# Altium integrated library Linear Technology PMIC-Switching Reg LTC1174-LTC3901.IntLib: 2647 symbols (part 229 of 310)
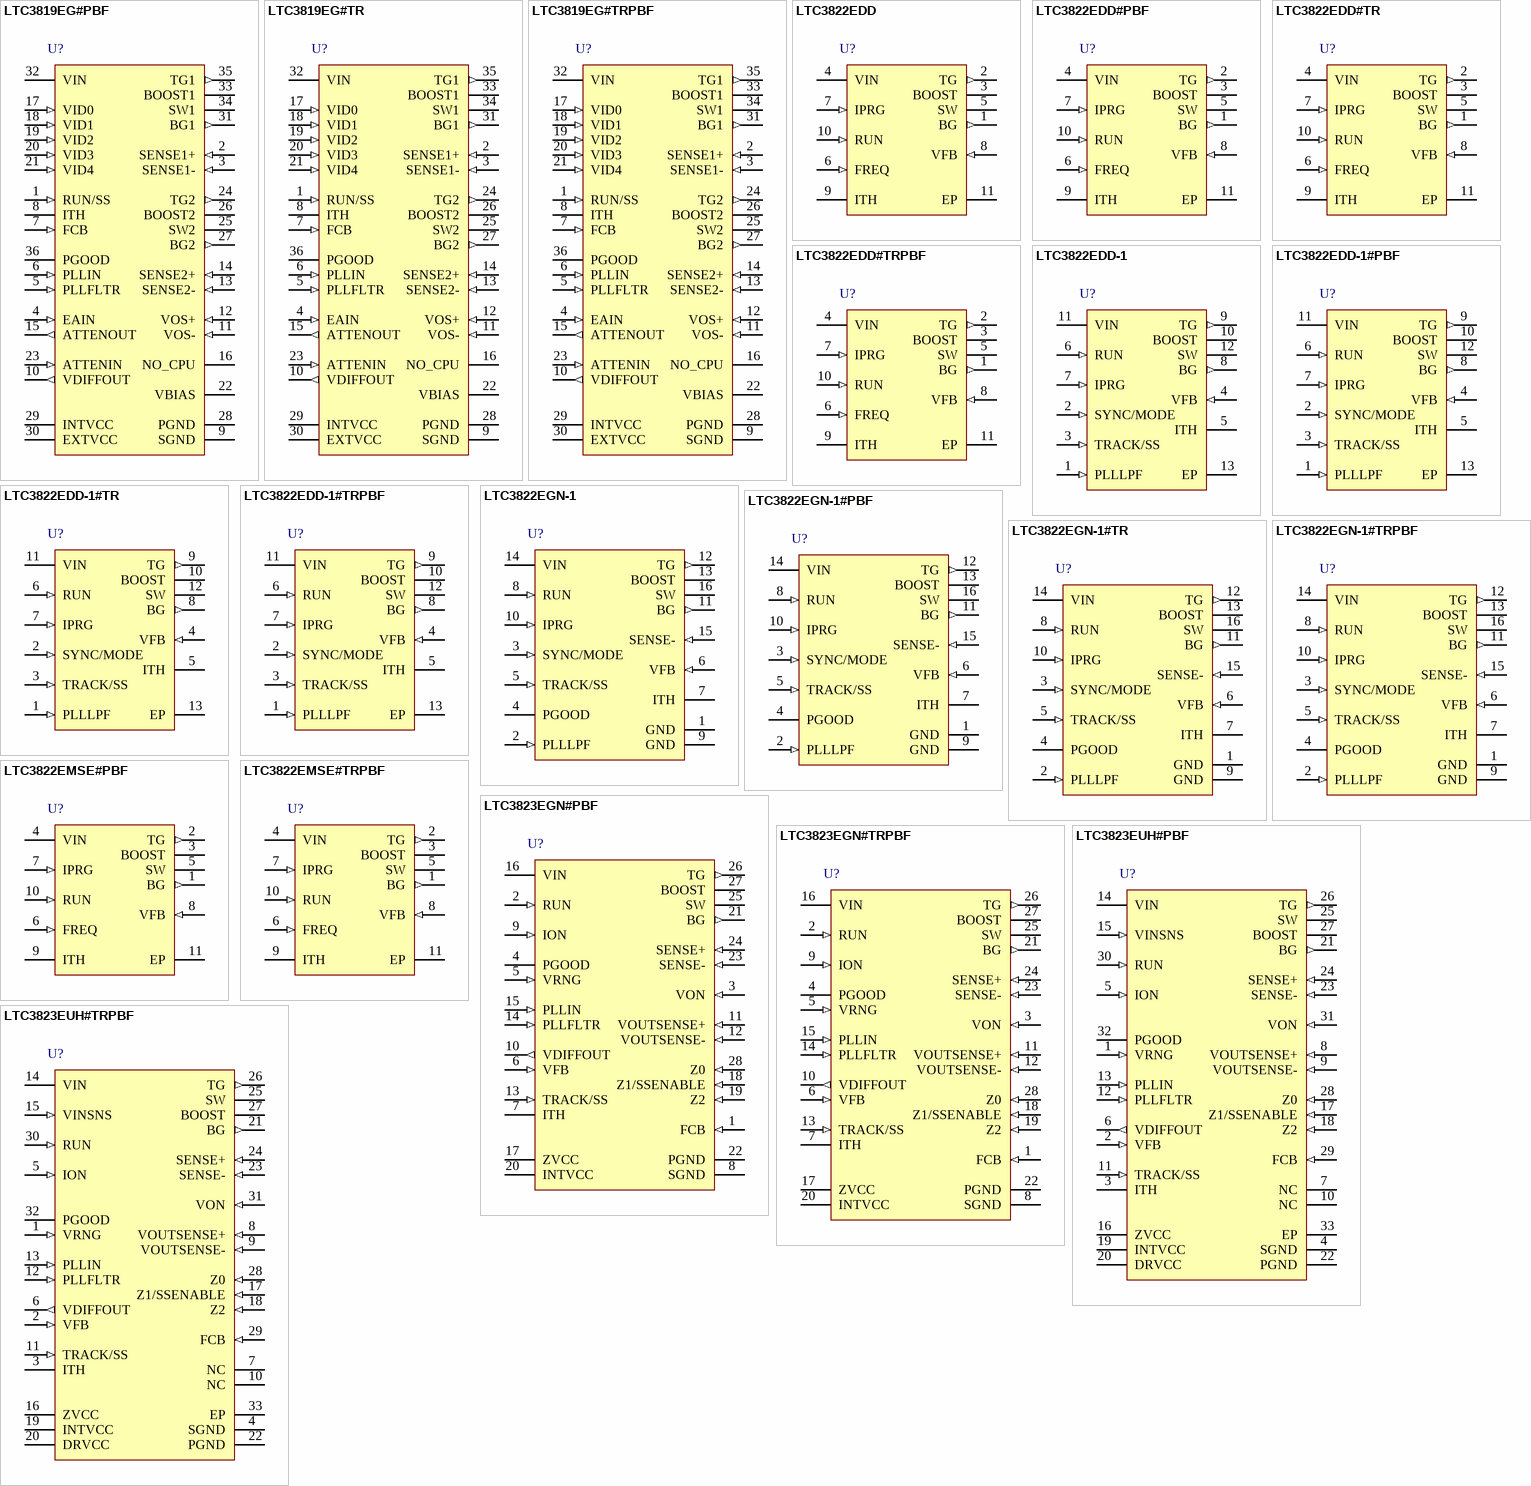
[diagram p250: symbols LTC3819EG#PBF to LTC3823EUH#TRPBF]

## LTC3822EMSE#TRPBF
designator U?
No Rsense, Low Input Voltage, Synchronous Step-Down DC/DC Controller, 10-pin SOP (MSE-10-EDP), -40 to 85 degC, Pb-Free, Tape and Reel; Manufacturer: Linear Technology; PartNumber: LTC3822EMSE#TRPBF; Number of Outputs: 1; PackageReference: MSE-10; PackageDescription: 10-Pin Plastic MSOP, Exposed Die Pad, Body 3 x 3 mm, Pitch 0.5 mm; Supplier 1: Digi-Key; Supplier Part Number 1: LTC3822EMSE#TRPBF-ND; RoHS: TRUE
footprint LT-MSE-10-EDP_N (SOP, 10-Leads, Body 3.1x3.1mm, Pitch 0.5mm, Thermal Pad 1.88x1.68mm, IPC Medium Density)
footprint LT-MSE-10-EDP_L (SOP, 10-Leads, Body 3.1x3.1mm, Pitch 0.5mm, Thermal Pad 1.88x1.68mm, IPC High Density)
footprint LT-MSE-10-EDP_M (SOP, 10-Leads, Body 3.1x3.1mm, Pitch 0.5mm, Thermal Pad 1.88x1.68mm, IPC Low Density)
pins: 1 BG (out) "Bottom Gate Driver Output. This pin drives the gate of the external bottom MOSFET. This pin has an output swing from GND to BOOST.", 2 TG (out) "Top Gate Driver Output. This pin drives the gate of the external topside MOSFET. This pin has an output swing from GND to BOOST.", 3 BOOST "Positive Supply Pin for the Gate Driver Circuitry. A bootstrapped capacitor, charged through an external Schottky diode from VIN, is connected between the BOOST and SW pins. Voltage swing at the BOOST pin is from VIN to 2VIN.(See Datasheet)", 4 VIN (power) "This pin powers the control circuitry and serves as the positive input to the differential current comparator. Pin 4 must not be locally decoupled with a capacitor as it is also the positive terminal for current sense.", 5 SW "Switch Node Connection to Inductor. This pin is also the negative input to the differential current comparator and an input to the reverse current comparator. Normally this pin is connected to the source of the external (See Datasheet)", 6 FREQ (in) "This pin serves as the frequency select input. Tying this pin to GND selects 300kHz operation; tying this pin to VIN selects 750kHz operation. Floating this pin selects 550kHz operation.", 7 IPRG (in) "Selects maximum peak sense voltage between the VIN and SW pins (i.e., the maximum allowed drop across the external top-side MOSFET). Tie to VIN, GND or float to select 200mV, 82mV or 120mV respectively.", 8 VFB (in) "Feedback Pin. This pin receives the remotely sensed feedback voltage from an external resistor divider across the output.", 9 ITH "Current Threshold and Error Amplifier Compensation Point. Nominal operating range on this pin is from 0.7V to 2V. The voltage on this pin determines the threshold of the main current comparator.", 10 RUN (in) "Run Control Input. Forcing this pin below 1.1V shuts down the chip. Driving this pin to VIN or releasing this pin enables the chip to start-up with the internal soft-start", 11 EP (power) "Exposed Pad. The exposed pad is ground and must be soldered to the PCB ground for electrical contact and optimal thermal performance."

## LTC3823EGN#PBF
designator U?
Fast No Rsense Step-Down Synchronous Controller with Differential Output Sensing, Tracking and PLL, 28-pin SOP (GN-28), -40 to 85 degC, Pb-Free; Manufacturer: Linear Technology; PartNumber: LTC3823EGN#PBF; Number of Outputs: 1; PackageReference: GN-28; PackageDescription: 28-Pin Plastic SSOP, Body 9.9 x 3.9 mm, Pitch 0.635 mm; Supplier 1: Digi-Key; Supplier Part Number 1: LTC3823EGN#PBF-ND; RoHS: TRUE
footprint LT-GN-28_N (SOP, 28-Leads, Body 9.98x3.98mm, Pitch 0.635mm, IPC Medium Density)
footprint LT-GN-28_L (SOP, 28-Leads, Body 9.98x3.98mm, Pitch 0.635mm, IPC High Density)
footprint LT-GN-28_M (SOP, 28-Leads, Body 9.98x3.98mm, Pitch 0.635mm, IPC Low Density)
pins: 1 FCB (in) "Forced Continuous Input. Connect this pin to SGND to forced continuous synchronization operation at low load, to INTVCC to enable discontinuous mode operation at low load, or to a resistive divider from a secondary output (See Datasheet)", 2 RUN (in) "Run Control Input. A voltage above 1.5V turns on the IC. Forcing this pin below 1.5V shuts down the device.", 3 VON (in) "On-Time Input. Connecting this pin to the output voltage makes the on-time proportional to VOUT. The comparator input defaults to 0.6V when the pin is grounded and defaults to 4.8V when the pin is tied to INTVCC.", 4 PGOOD (oc) "Power Good Output. Open-drain logic that is pulled to ground when the output voltage is not within +/-11% of the regulation point after the internal 20us power bad mask timer expires.", 5 VRNG (in) "Sense Voltage Range Input. The voltage at this pin is ten times the nominal sense voltage at maximum output current and can be set from 0.5V to 2V by a resistive divider from INTVCC. The nominal sense voltage defaults to (See Datasheet)", 6 VFB (in) "Error Ampli?er Feedback Input. This pin connects the error ampli?er input to an external resistive divider from VOUT.", 7 ITH "Current Control Threshold and Error Ampli?er Compensation Point. The current comparator threshold increases with this control voltage. The voltage ranges from 0V to 2.4V with 0.75V corresponding to zero sense voltage (zer(See Datasheet)", 8 SGND (power) "Signal Ground. All small-signal components and compensation components should connect to this ground, which in turn, connects to PGND at one point.", 9 ION (in) "On-Time Current Input. Tie a resistor from this pin to ground to set the one-shot timer current and thereby, set the switching frequency.", 10 VDIFFOUT (out) "Output of Remote Sensing Differential Amplifier. Connect this to VFB directly or through a resistive divider.", 11 VOUTSENSE+ (in) "This is the positive sense pin for the remote sense differential amplifier. Connect this pin to the positive terminal of the output load capacitor", 12 VOUTSENSE- (in) "This is the negative sense pin for the remote sense differential amplifier. Connect this pin to the negative terminal of the output load capacitor.", 13 TRACK/SS (in) "Output Voltage Tracking and Soft-Start Input. When the IC is configured to be the master of two outputs, a capacitor to ground at this pin sets the ramp rate for the output voltage. When the IC is configured to be (See Datasheet)", 14 PLLFLTR (in) "The phase-locked loop's lowpass filter is tied to this pin. The voltage at this pin defaults to 1.180V when the IC is not synchronized with an external clock at the PLLIN pin.", 15 PLLIN (in) "External Synchronization Input to Phase Detector. This pin is internally terminated to SGND with a 50k resistor.", 16 VIN (power) "Main Input Supply. Decouple this to PGND with a capacitor (0.1uF to 1uF).", 17 ZVCC (power) "Post-Package Zener Trim Supply. Under normal conditions this pin should always be connected to INTVCC.", 18 Z1/SSENABLE (in) "Post-Package Zener Trim Control. This pin is a multifunctional pin used in production for post-package trimming and tracking. Ground this pin under normal soft-start operation. Connecting this pin to INTVCC will turn off the (See Datasheet)", 19 Z2 (in) "Post-Package Zener Trim Control. This pin is used in production for post-package trimming. Ground this pin under normal operation.", 20 INTVCC (power) "Internal 5V Regulated Output. The control circuits are powered from this voltage. Decouple this pin to PGND with a minimum of 4.7uF low ESR tantalum or ceramic capacitor.", 21 BG (out) "Gate Driver Output. This pin drives the gate of the bottom N-channel MOSFET between ground and INTVCC.", 22 PGND (power) "Power Ground. Connect this pin closely to the source of the bottom N-channel MOSFET, the (-) terminal of CVCC and CIN", 23 SENSE- (in) "Current Sense Comparator Input. The negative input to the current comparator is used to accurately Kelvin sense the bottom side of the sense resistor or MOSFET.", 24 SENSE+ (in) "Current Sense Comparator Input. The positive input to the current comparator is normally connected to the SW node unless using a sense resistor.", 25 SW "Switch Node. The (-) terminal of the bootstrap capacitor, CB, connects here. This pin swings from a diode drop below ground up to VIN.", 26 TG (out) "Top Gate Drive Output. This pin drives the top N-channel MOSFET with a voltage swing equal to INTVCC, superimposed on the switch node voltage SW.", 27 BOOST "Boosted Floating Driver Supply. The (+) terminal of the bootstrap capacitor, CB, connects here. This pin swings from a diode voltage drop below INTVCC up to VIN + INTVCC.", 28 Z0 (in) "Dead Time Control Input. Applying a DC voltage at this pin will vary the dead time between TG low and BG high transition. Do not force a voltage higher than INTVCC on this pin."

## LTC3823EGN#TRPBF
designator U?
Fast No Rsense Step-Down Synchronous Controller with Differential Output Sensing, Tracking and PLL, 28-pin SOP (GN-28), -40 to 85 degC, Pb-Free, Tape and Reel; Manufacturer: Linear Technology; PartNumber: LTC3823EGN#TRPBF; Number of Outputs: 1; PackageReference: GN-28; PackageDescription: 28-Pin Plastic SSOP, Body 9.9 x 3.9 mm, Pitch 0.635 mm; Supplier 1: Digi-Key; Supplier Part Number 1: LTC3823EGN#TRPBF-ND; RoHS: TRUE
footprint LT-GN-28_N (SOP, 28-Leads, Body 9.98x3.98mm, Pitch 0.635mm, IPC Medium Density)
footprint LT-GN-28_L (SOP, 28-Leads, Body 9.98x3.98mm, Pitch 0.635mm, IPC High Density)
footprint LT-GN-28_M (SOP, 28-Leads, Body 9.98x3.98mm, Pitch 0.635mm, IPC Low Density)
pins: 1 FCB (in) "Forced Continuous Input. Connect this pin to SGND to forced continuous synchronization operation at low load, to INTVCC to enable discontinuous mode operation at low load, or to a resistive divider from a secondary output (See Datasheet)", 2 RUN (in) "Run Control Input. A voltage above 1.5V turns on the IC. Forcing this pin below 1.5V shuts down the device.", 3 VON (in) "On-Time Input. Connecting this pin to the output voltage makes the on-time proportional to VOUT. The comparator input defaults to 0.6V when the pin is grounded and defaults to 4.8V when the pin is tied to INTVCC.", 4 PGOOD (oc) "Power Good Output. Open-drain logic that is pulled to ground when the output voltage is not within +/-11% of the regulation point after the internal 20us power bad mask timer expires.", 5 VRNG (in) "Sense Voltage Range Input. The voltage at this pin is ten times the nominal sense voltage at maximum output current and can be set from 0.5V to 2V by a resistive divider from INTVCC. The nominal sense voltage defaults to (See Datasheet)", 6 VFB (in) "Error Ampli?er Feedback Input. This pin connects the error ampli?er input to an external resistive divider from VOUT.", 7 ITH "Current Control Threshold and Error Ampli?er Compensation Point. The current comparator threshold increases with this control voltage. The voltage ranges from 0V to 2.4V with 0.75V corresponding to zero sense voltage (zer(See Datasheet)", 8 SGND (power) "Signal Ground. All small-signal components and compensation components should connect to this ground, which in turn, connects to PGND at one point.", 9 ION (in) "On-Time Current Input. Tie a resistor from this pin to ground to set the one-shot timer current and thereby, set the switching frequency.", 10 VDIFFOUT (out) "Output of Remote Sensing Differential Amplifier. Connect this to VFB directly or through a resistive divider.", 11 VOUTSENSE+ (in) "This is the positive sense pin for the remote sense differential amplifier. Connect this pin to the positive terminal of the output load capacitor", 12 VOUTSENSE- (in) "This is the negative sense pin for the remote sense differential amplifier. Connect this pin to the negative terminal of the output load capacitor.", 13 TRACK/SS (in) "Output Voltage Tracking and Soft-Start Input. When the IC is configured to be the master of two outputs, a capacitor to ground at this pin sets the ramp rate for the output voltage. When the IC is configured to be (See Datasheet)", 14 PLLFLTR (in) "The phase-locked loop's lowpass filter is tied to this pin. The voltage at this pin defaults to 1.180V when the IC is not synchronized with an external clock at the PLLIN pin.", 15 PLLIN (in) "External Synchronization Input to Phase Detector. This pin is internally terminated to SGND with a 50k resistor.", 16 VIN (power) "Main Input Supply. Decouple this to PGND with a capacitor (0.1uF to 1uF).", 17 ZVCC (power) "Post-Package Zener Trim Supply. Under normal conditions this pin should always be connected to INTVCC.", 18 Z1/SSENABLE (in) "Post-Package Zener Trim Control. This pin is a multifunctional pin used in production for post-package trimming and tracking. Ground this pin under normal soft-start operation. Connecting this pin to INTVCC will turn off the (See Datasheet)", 19 Z2 (in) "Post-Package Zener Trim Control. This pin is used in production for post-package trimming. Ground this pin under normal operation.", 20 INTVCC (power) "Internal 5V Regulated Output. The control circuits are powered from this voltage. Decouple this pin to PGND with a minimum of 4.7uF low ESR tantalum or ceramic capacitor.", 21 BG (out) "Gate Driver Output. This pin drives the gate of the bottom N-channel MOSFET between ground and INTVCC.", 22 PGND (power) "Power Ground. Connect this pin closely to the source of the bottom N-channel MOSFET, the (-) terminal of CVCC and CIN", 23 SENSE- (in) "Current Sense Comparator Input. The negative input to the current comparator is used to accurately Kelvin sense the bottom side of the sense resistor or MOSFET.", 24 SENSE+ (in) "Current Sense Comparator Input. The positive input to the current comparator is normally connected to the SW node unless using a sense resistor.", 25 SW "Switch Node. The (-) terminal of the bootstrap capacitor, CB, connects here. This pin swings from a diode drop below ground up to VIN.", 26 TG (out) "Top Gate Drive Output. This pin drives the top N-channel MOSFET with a voltage swing equal to INTVCC, superimposed on the switch node voltage SW.", 27 BOOST "Boosted Floating Driver Supply. The (+) terminal of the bootstrap capacitor, CB, connects here. This pin swings from a diode voltage drop below INTVCC up to VIN + INTVCC.", 28 Z0 (in) "Dead Time Control Input. Applying a DC voltage at this pin will vary the dead time between TG low and BG high transition. Do not force a voltage higher than INTVCC on this pin."

## LTC3823EUH#PBF
designator U?
Fast No Rsense Step-Down Synchronous Controller with Differential Output Sensing, Tracking and PLL, 32-pin QFN (UH-32), -40 to 85 degC, Pb-Free; Manufacturer: Linear Technology; PartNumber: LTC3823EUH#PBF; Number of Outputs: 1; PackageReference: UH-32; PackageDescription: 32-Pin Plastic QFN, Body 5 x 5 mm, Pitch 0.5 mm; Supplier 1: Digi-Key; Supplier Part Number 1: LTC3823EUH#PBF-ND; RoHS: TRUE; Code_JEDEC: MO-220
footprint LT-UH-32_N (QFN, 32-Leads, Body 5.1x5.1mm, Pitch 0.5mm, Thermal Pad 3.45X3.45mm, IPC Medium Density)
footprint LT-UH-32_L (QFN, 32-Leads, Body 5.1x5.1mm, Pitch 0.5mm, Thermal Pad 3.45X3.45mm, IPC High Density)
footprint LT-UH-32_M (QFN, 32-Leads, Body 5.1x5.1mm, Pitch 0.5mm, Thermal Pad 3.45X3.45mm, IPC Low Density)
pins: 1 VRNG (in) "Sense Voltage Range Input. The voltage at this pin is ten times the nominal sense voltage at maximum output current and can be set from 0.5V to 2V by a resistive divider from INTVCC. The nominal sense voltage defaults to (See Datasheet)", 2 VFB (in) "Error Ampli?er Feedback Input. This pin connects the error ampli?er input to an external resistive divider from VOUT.", 3 ITH "Current Control Threshold and Error Ampli?er Compensation Point. The current comparator threshold increases with this control voltage. The voltage ranges from 0V to 2.4V with 0.75V corresponding to zero sense voltage (zer(See Datasheet)", 4 SGND (power) "Signal Ground. All small-signal components and compensation components should connect to this ground, which in turn, connects to PGND at one point.", 5 ION (in) "On-Time Current Input. Tie a resistor from this pin to ground to set the one-shot timer current and thereby, set the switching frequency", 6 VDIFFOUT (out) "Output of Remote Sensing Differential Amplifier. Connect this to VFB directly or through a resistive divider", 7 NC "No Connect", 8 VOUTSENSE+ (in) "This is the positive sense pin for the remote sense differential amplifier. Connect this pin to the positive terminal of the output load capacitor", 9 VOUTSENSE- (in) "This is the negative sense pin for the remote sense differential amplifier. Connect this pin to the negative terminal of the output load capacitor.", 10 NC "No Connect", 11 TRACK/SS (in) "Output Voltage Tracking and Soft-Start Input. When the IC is configured to be the master of two outputs, a capacitor to ground at this pin sets the ramp rate for the output voltage. When the IC is configured to be (See Datasheet)", 12 PLLFLTR (in) "The phase-locked loop's lowpass filter is tied to this pin. The voltage at this pin defaults to 1.180V when the IC is not synchronized with an external clock at the PLLIN pin.", 13 PLLIN (in) "External Synchronization Input to Phase Detector. This pin is internally terminated to SGND with a 50k resistor.", 14 VIN (power) "Main Input Supply. Decouple this to PGND with a capacitor (0.1uF to 1uF).", 15 VINSNS (in) "VIN Voltage Sense Input. Normally this pin is tied to VIN. However, in certain applications when the IC is powered from a separate supply, VINSNS is tied to the upper MOSFET supply to sense the VIN voltage. This pin is (See Datasheet)", 16 ZVCC (power) "Post-Package Zener Trim Supply. Under normal conditions this pin should always be connected to INTVCC.", 17 Z1/SSENABLE (in) "Post-Package Zener Trim Control. This pin is a multifunctional pin used in production for post-package trimming and tracking. Ground this pin under normal soft-start operation. Connecting this pin to INTVCC will turn off the (See Datasheet)", 18 Z2 (in) "Post-Package Zener Trim Control. This pin is used in production for post-package trimming. Ground this pin under normal operation.", 19 INTVCC (power) "Internal 5V Regulated Output. The control circuits are powered from this voltage. Decouple this pin to PGND with a minimum of 4.7uF low ESR tantalum or ceramic capacitor.", 20 DRVCC (power) "Driver Voltage Input. Must be connected to INTVCC externally. Do not exceed 7V at this pin. This pin is co-bonded to INTVCC internally in the GN package.", 21 BG (out) "Gate Driver Output. This pin drives the gate of the bottom N-channel MOSFET between ground and INTVCC.", 22 PGND (power) "Power Ground. Connect this pin closely to the source of the bottom N-channel MOSFET, the (-) terminal of CVCC and CIN.", 23 SENSE- (in) "Current Sense Comparator Input. The negative input to the current comparator is used to accurately Kelvin sense the bottom side of the sense resistor or MOSFET.", 24 SENSE+ (in) "Current Sense Comparator Input. The positive input to the current comparator is normally connected to the SW node unless using a sense resistor.", 25 SW "Switch Node. The (-) terminal of the bootstrap capacitor, CB, connects here. This pin swings from a diode drop below ground up to VIN.", 26 TG (out) "Top Gate Drive Output. This pin drives the top N-channel MOSFET with a voltage swing equal to INTVCC, superimposed on the switch node voltage SW.", 27 BOOST "Boosted Floating Driver Supply. The (+) terminal of the bootstrap capacitor, CB, connects here. This pin swings from a diode voltage drop below INTVCC up to VIN + INTVCC.", 28 Z0 (in) "Dead Time Control Input. Applying a DC voltage at this pin will vary the dead time between TG low and BG high transition. Do not force a voltage higher than INTVCC on this pin.", 29 FCB (in) "Forced Continuous Input. Connect this pin to SGND to forced continuous synchronization operation at low load, to INTVCC to enable discontinuous mode operation at low load, or to a resistive divider from a secondary output (See Datasheet)", 30 RUN (in) "Run Control Input. A voltage above 1.5V turns on the IC. Forcing this pin below 1.5V shuts down the device.", 31 VON (in) "On-Time Input. Connecting this pin to the output voltage makes the on-time proportional to VOUT. The comparator input defaults to 0.6V when the pin is grounded and defaults to 4.8V when the pin is tied to INTVCC.", 32 PGOOD (oc) "Power Good Output. Open-drain logic that is pulled to ground when the output voltage is not within +/-11% of the regulation point after the internal 20us power bad mask timer expires.", 33 EP (power) "he exposed pad is signal ground. It must be soldered to PCB ground for electrical contact and for rated thermal performance."

## LTC3823EUH#TRPBF
designator U?
Fast No Rsense Step-Down Synchronous Controller with Differential Output Sensing, Tracking and PLL, 32-pin QFN (UH-32), -40 to 85 degC, Pb-Free, Tape and Reel; Manufacturer: Linear Technology; PartNumber: LTC3823EUH#TRPBF; Number of Outputs: 1; PackageReference: UH-32; PackageDescription: 32-Pin Plastic QFN, Body 5 x 5 mm, Pitch 0.5 mm; Supplier 1: Digi-Key; Supplier Part Number 1: LTC3823EUH#TRPBF-ND; RoHS: TRUE; Code_JEDEC: MO-220
footprint LT-UH-32_N (QFN, 32-Leads, Body 5.1x5.1mm, Pitch 0.5mm, Thermal Pad 3.45X3.45mm, IPC Medium Density)
footprint LT-UH-32_L (QFN, 32-Leads, Body 5.1x5.1mm, Pitch 0.5mm, Thermal Pad 3.45X3.45mm, IPC High Density)
footprint LT-UH-32_M (QFN, 32-Leads, Body 5.1x5.1mm, Pitch 0.5mm, Thermal Pad 3.45X3.45mm, IPC Low Density)
pins: 1 VRNG (in) "Sense Voltage Range Input. The voltage at this pin is ten times the nominal sense voltage at maximum output current and can be set from 0.5V to 2V by a resistive divider from INTVCC. The nominal sense voltage defaults to (See Datasheet)", 2 VFB (in) "Error Ampli?er Feedback Input. This pin connects the error ampli?er input to an external resistive divider from VOUT.", 3 ITH "Current Control Threshold and Error Ampli?er Compensation Point. The current comparator threshold increases with this control voltage. The voltage ranges from 0V to 2.4V with 0.75V corresponding to zero sense voltage (zer(See Datasheet)", 4 SGND (power) "Signal Ground. All small-signal components and compensation components should connect to this ground, which in turn, connects to PGND at one point.", 5 ION (in) "On-Time Current Input. Tie a resistor from this pin to ground to set the one-shot timer current and thereby, set the switching frequency", 6 VDIFFOUT (out) "Output of Remote Sensing Differential Amplifier. Connect this to VFB directly or through a resistive divider", 7 NC "No Connect", 8 VOUTSENSE+ (in) "This is the positive sense pin for the remote sense differential amplifier. Connect this pin to the positive terminal of the output load capacitor", 9 VOUTSENSE- (in) "This is the negative sense pin for the remote sense differential amplifier. Connect this pin to the negative terminal of the output load capacitor.", 10 NC "No Connect", 11 TRACK/SS (in) "Output Voltage Tracking and Soft-Start Input. When the IC is configured to be the master of two outputs, a capacitor to ground at this pin sets the ramp rate for the output voltage. When the IC is configured to be (See Datasheet)", 12 PLLFLTR (in) "The phase-locked loop's lowpass filter is tied to this pin. The voltage at this pin defaults to 1.180V when the IC is not synchronized with an external clock at the PLLIN pin.", 13 PLLIN (in) "External Synchronization Input to Phase Detector. This pin is internally terminated to SGND with a 50k resistor.", 14 VIN (power) "Main Input Supply. Decouple this to PGND with a capacitor (0.1uF to 1uF).", 15 VINSNS (in) "VIN Voltage Sense Input. Normally this pin is tied to VIN. However, in certain applications when the IC is powered from a separate supply, VINSNS is tied to the upper MOSFET supply to sense the VIN voltage. This pin is (See Datasheet)", 16 ZVCC (power) "Post-Package Zener Trim Supply. Under normal conditions this pin should always be connected to INTVCC.", 17 Z1/SSENABLE (in) "Post-Package Zener Trim Control. This pin is a multifunctional pin used in production for post-package trimming and tracking. Ground this pin under normal soft-start operation. Connecting this pin to INTVCC will turn off the (See Datasheet)", 18 Z2 (in) "Post-Package Zener Trim Control. This pin is used in production for post-package trimming. Ground this pin under normal operation.", 19 INTVCC (power) "Internal 5V Regulated Output. The control circuits are powered from this voltage. Decouple this pin to PGND with a minimum of 4.7uF low ESR tantalum or ceramic capacitor.", 20 DRVCC (power) "Driver Voltage Input. Must be connected to INTVCC externally. Do not exceed 7V at this pin. This pin is co-bonded to INTVCC internally in the GN package.", 21 BG (out) "Gate Driver Output. This pin drives the gate of the bottom N-channel MOSFET between ground and INTVCC.", 22 PGND (power) "Power Ground. Connect this pin closely to the source of the bottom N-channel MOSFET, the (-) terminal of CVCC and CIN.", 23 SENSE- (in) "Current Sense Comparator Input. The negative input to the current comparator is used to accurately Kelvin sense the bottom side of the sense resistor or MOSFET.", 24 SENSE+ (in) "Current Sense Comparator Input. The positive input to the current comparator is normally connected to the SW node unless using a sense resistor.", 25 SW "Switch Node. The (-) terminal of the bootstrap capacitor, CB, connects here. This pin swings from a diode drop below ground up to VIN.", 26 TG (out) "Top Gate Drive Output. This pin drives the top N-channel MOSFET with a voltage swing equal to INTVCC, superimposed on the switch node voltage SW.", 27 BOOST "Boosted Floating Driver Supply. The (+) terminal of the bootstrap capacitor, CB, connects here. This pin swings from a diode voltage drop below INTVCC up to VIN + INTVCC.", 28 Z0 (in) "Dead Time Control Input. Applying a DC voltage at this pin will vary the dead time between TG low and BG high transition. Do not force a voltage higher than INTVCC on this pin.", 29 FCB (in) "Forced Continuous Input. Connect this pin to SGND to forced continuous synchronization operation at low load, to INTVCC to enable discontinuous mode operation at low load, or to a resistive divider from a secondary output (See Datasheet)", 30 RUN (in) "Run Control Input. A voltage above 1.5V turns on the IC. Forcing this pin below 1.5V shuts down the device.", 31 VON (in) "On-Time Input. Connecting this pin to the output voltage makes the on-time proportional to VOUT. The comparator input defaults to 0.6V when the pin is grounded and defaults to 4.8V when the pin is tied to INTVCC.", 32 PGOOD (oc) "Power Good Output. Open-drain logic that is pulled to ground when the output voltage is not within +/-11% of the regulation point after the internal 20us power bad mask timer expires.", 33 EP (power) "he exposed pad is signal ground. It must be soldered to PCB ground for electrical contact and for rated thermal performance."

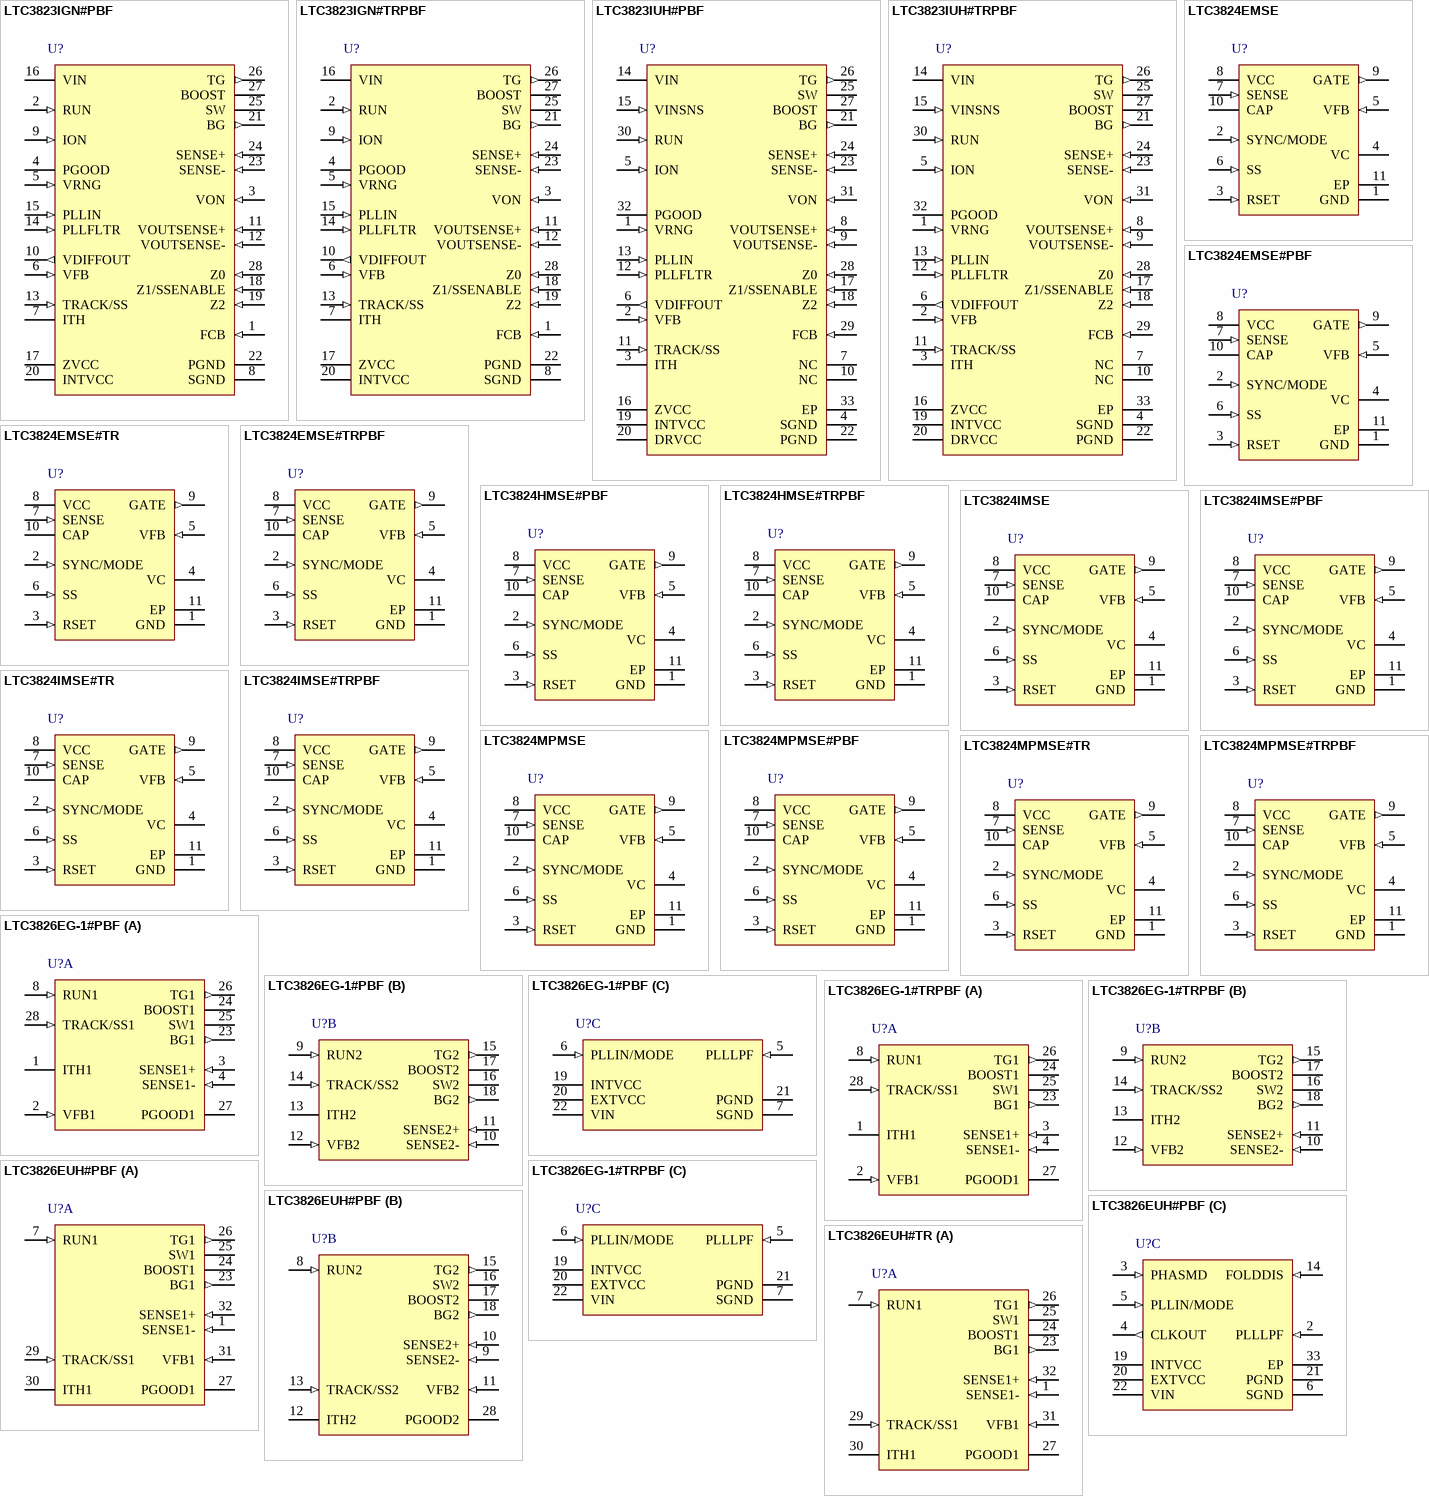
[diagram p81: symbols LTC3823IGN#PBF to LTC3826EUH#TR]

## LTC3823IGN#PBF
designator U?
Fast No Rsense Step-Down Synchronous Controller with Differential Output Sensing, Tracking and PLL, 28-pin SOP (GN-28), -40 to 85 degC, Pb-Free; Manufacturer: Linear Technology; PartNumber: LTC3823IGN#PBF; Number of Outputs: 1; PackageReference: GN-28; PackageDescription: 28-Pin Plastic SSOP, Body 9.9 x 3.9 mm, Pitch 0.635 mm; Supplier 1: Digi-Key; Supplier Part Number 1: LTC3823IGN#PBF-ND; RoHS: TRUE
footprint LT-GN-28_N (SOP, 28-Leads, Body 9.98x3.98mm, Pitch 0.635mm, IPC Medium Density)
footprint LT-GN-28_L (SOP, 28-Leads, Body 9.98x3.98mm, Pitch 0.635mm, IPC High Density)
footprint LT-GN-28_M (SOP, 28-Leads, Body 9.98x3.98mm, Pitch 0.635mm, IPC Low Density)
pins: 1 FCB (in) "Forced Continuous Input. Connect this pin to SGND to forced continuous synchronization operation at low load, to INTVCC to enable discontinuous mode operation at low load, or to a resistive divider from a secondary output (See Datasheet)", 2 RUN (in) "Run Control Input. A voltage above 1.5V turns on the IC. Forcing this pin below 1.5V shuts down the device.", 3 VON (in) "On-Time Input. Connecting this pin to the output voltage makes the on-time proportional to VOUT. The comparator input defaults to 0.6V when the pin is grounded and defaults to 4.8V when the pin is tied to INTVCC.", 4 PGOOD (oc) "Power Good Output. Open-drain logic that is pulled to ground when the output voltage is not within +/-11% of the regulation point after the internal 20us power bad mask timer expires.", 5 VRNG (in) "Sense Voltage Range Input. The voltage at this pin is ten times the nominal sense voltage at maximum output current and can be set from 0.5V to 2V by a resistive divider from INTVCC. The nominal sense voltage defaults to (See Datasheet)", 6 VFB (in) "Error Ampli?er Feedback Input. This pin connects the error ampli?er input to an external resistive divider from VOUT.", 7 ITH "Current Control Threshold and Error Ampli?er Compensation Point. The current comparator threshold increases with this control voltage. The voltage ranges from 0V to 2.4V with 0.75V corresponding to zero sense voltage (zer(See Datasheet)", 8 SGND (power) "Signal Ground. All small-signal components and compensation components should connect to this ground, which in turn, connects to PGND at one point.", 9 ION (in) "On-Time Current Input. Tie a resistor from this pin to ground to set the one-shot timer current and thereby, set the switching frequency.", 10 VDIFFOUT (out) "Output of Remote Sensing Differential Amplifier. Connect this to VFB directly or through a resistive divider.", 11 VOUTSENSE+ (in) "This is the positive sense pin for the remote sense differential amplifier. Connect this pin to the positive terminal of the output load capacitor", 12 VOUTSENSE- (in) "This is the negative sense pin for the remote sense differential amplifier. Connect this pin to the negative terminal of the output load capacitor.", 13 TRACK/SS (in) "Output Voltage Tracking and Soft-Start Input. When the IC is configured to be the master of two outputs, a capacitor to ground at this pin sets the ramp rate for the output voltage. When the IC is configured to be (See Datasheet)", 14 PLLFLTR (in) "The phase-locked loop's lowpass filter is tied to this pin. The voltage at this pin defaults to 1.180V when the IC is not synchronized with an external clock at the PLLIN pin.", 15 PLLIN (in) "External Synchronization Input to Phase Detector. This pin is internally terminated to SGND with a 50k resistor.", 16 VIN (power) "Main Input Supply. Decouple this to PGND with a capacitor (0.1uF to 1uF).", 17 ZVCC (power) "Post-Package Zener Trim Supply. Under normal conditions this pin should always be connected to INTVCC.", 18 Z1/SSENABLE (in) "Post-Package Zener Trim Control. This pin is a multifunctional pin used in production for post-package trimming and tracking. Ground this pin under normal soft-start operation. Connecting this pin to INTVCC will turn off the (See Datasheet)", 19 Z2 (in) "Post-Package Zener Trim Control. This pin is used in production for post-package trimming. Ground this pin under normal operation.", 20 INTVCC (power) "Internal 5V Regulated Output. The control circuits are powered from this voltage. Decouple this pin to PGND with a minimum of 4.7uF low ESR tantalum or ceramic capacitor.", 21 BG (out) "Gate Driver Output. This pin drives the gate of the bottom N-channel MOSFET between ground and INTVCC.", 22 PGND (power) "Power Ground. Connect this pin closely to the source of the bottom N-channel MOSFET, the (-) terminal of CVCC and CIN", 23 SENSE- (in) "Current Sense Comparator Input. The negative input to the current comparator is used to accurately Kelvin sense the bottom side of the sense resistor or MOSFET.", 24 SENSE+ (in) "Current Sense Comparator Input. The positive input to the current comparator is normally connected to the SW node unless using a sense resistor.", 25 SW "Switch Node. The (-) terminal of the bootstrap capacitor, CB, connects here. This pin swings from a diode drop below ground up to VIN.", 26 TG (out) "Top Gate Drive Output. This pin drives the top N-channel MOSFET with a voltage swing equal to INTVCC, superimposed on the switch node voltage SW.", 27 BOOST "Boosted Floating Driver Supply. The (+) terminal of the bootstrap capacitor, CB, connects here. This pin swings from a diode voltage drop below INTVCC up to VIN + INTVCC.", 28 Z0 (in) "Dead Time Control Input. Applying a DC voltage at this pin will vary the dead time between TG low and BG high transition. Do not force a voltage higher than INTVCC on this pin."

## LTC3823IGN#TRPBF
designator U?
Fast No Rsense Step-Down Synchronous Controller with Differential Output Sensing, Tracking and PLL, 28-pin SOP (GN-28), -40 to 85 degC, Pb-Free, Tape and Reel; Manufacturer: Linear Technology; PartNumber: LTC3823IGN#TRPBF; Number of Outputs: 1; PackageReference: GN-28; PackageDescription: 28-Pin Plastic SSOP, Body 9.9 x 3.9 mm, Pitch 0.635 mm; Supplier 1: Digi-Key; Supplier Part Number 1: LTC3823IGN#TRPBF-ND; RoHS: TRUE
footprint LT-GN-28_N (SOP, 28-Leads, Body 9.98x3.98mm, Pitch 0.635mm, IPC Medium Density)
footprint LT-GN-28_L (SOP, 28-Leads, Body 9.98x3.98mm, Pitch 0.635mm, IPC High Density)
footprint LT-GN-28_M (SOP, 28-Leads, Body 9.98x3.98mm, Pitch 0.635mm, IPC Low Density)
pins: 1 FCB (in) "Forced Continuous Input. Connect this pin to SGND to forced continuous synchronization operation at low load, to INTVCC to enable discontinuous mode operation at low load, or to a resistive divider from a secondary output (See Datasheet)", 2 RUN (in) "Run Control Input. A voltage above 1.5V turns on the IC. Forcing this pin below 1.5V shuts down the device.", 3 VON (in) "On-Time Input. Connecting this pin to the output voltage makes the on-time proportional to VOUT. The comparator input defaults to 0.6V when the pin is grounded and defaults to 4.8V when the pin is tied to INTVCC.", 4 PGOOD (oc) "Power Good Output. Open-drain logic that is pulled to ground when the output voltage is not within +/-11% of the regulation point after the internal 20us power bad mask timer expires.", 5 VRNG (in) "Sense Voltage Range Input. The voltage at this pin is ten times the nominal sense voltage at maximum output current and can be set from 0.5V to 2V by a resistive divider from INTVCC. The nominal sense voltage defaults to (See Datasheet)", 6 VFB (in) "Error Ampli?er Feedback Input. This pin connects the error ampli?er input to an external resistive divider from VOUT.", 7 ITH "Current Control Threshold and Error Ampli?er Compensation Point. The current comparator threshold increases with this control voltage. The voltage ranges from 0V to 2.4V with 0.75V corresponding to zero sense voltage (zer(See Datasheet)", 8 SGND (power) "Signal Ground. All small-signal components and compensation components should connect to this ground, which in turn, connects to PGND at one point.", 9 ION (in) "On-Time Current Input. Tie a resistor from this pin to ground to set the one-shot timer current and thereby, set the switching frequency.", 10 VDIFFOUT (out) "Output of Remote Sensing Differential Amplifier. Connect this to VFB directly or through a resistive divider.", 11 VOUTSENSE+ (in) "This is the positive sense pin for the remote sense differential amplifier. Connect this pin to the positive terminal of the output load capacitor", 12 VOUTSENSE- (in) "This is the negative sense pin for the remote sense differential amplifier. Connect this pin to the negative terminal of the output load capacitor.", 13 TRACK/SS (in) "Output Voltage Tracking and Soft-Start Input. When the IC is configured to be the master of two outputs, a capacitor to ground at this pin sets the ramp rate for the output voltage. When the IC is configured to be (See Datasheet)", 14 PLLFLTR (in) "The phase-locked loop's lowpass filter is tied to this pin. The voltage at this pin defaults to 1.180V when the IC is not synchronized with an external clock at the PLLIN pin.", 15 PLLIN (in) "External Synchronization Input to Phase Detector. This pin is internally terminated to SGND with a 50k resistor.", 16 VIN (power) "Main Input Supply. Decouple this to PGND with a capacitor (0.1uF to 1uF).", 17 ZVCC (power) "Post-Package Zener Trim Supply. Under normal conditions this pin should always be connected to INTVCC.", 18 Z1/SSENABLE (in) "Post-Package Zener Trim Control. This pin is a multifunctional pin used in production for post-package trimming and tracking. Ground this pin under normal soft-start operation. Connecting this pin to INTVCC will turn off the (See Datasheet)", 19 Z2 (in) "Post-Package Zener Trim Control. This pin is used in production for post-package trimming. Ground this pin under normal operation.", 20 INTVCC (power) "Internal 5V Regulated Output. The control circuits are powered from this voltage. Decouple this pin to PGND with a minimum of 4.7uF low ESR tantalum or ceramic capacitor.", 21 BG (out) "Gate Driver Output. This pin drives the gate of the bottom N-channel MOSFET between ground and INTVCC.", 22 PGND (power) "Power Ground. Connect this pin closely to the source of the bottom N-channel MOSFET, the (-) terminal of CVCC and CIN", 23 SENSE- (in) "Current Sense Comparator Input. The negative input to the current comparator is used to accurately Kelvin sense the bottom side of the sense resistor or MOSFET.", 24 SENSE+ (in) "Current Sense Comparator Input. The positive input to the current comparator is normally connected to the SW node unless using a sense resistor.", 25 SW "Switch Node. The (-) terminal of the bootstrap capacitor, CB, connects here. This pin swings from a diode drop below ground up to VIN.", 26 TG (out) "Top Gate Drive Output. This pin drives the top N-channel MOSFET with a voltage swing equal to INTVCC, superimposed on the switch node voltage SW.", 27 BOOST "Boosted Floating Driver Supply. The (+) terminal of the bootstrap capacitor, CB, connects here. This pin swings from a diode voltage drop below INTVCC up to VIN + INTVCC.", 28 Z0 (in) "Dead Time Control Input. Applying a DC voltage at this pin will vary the dead time between TG low and BG high transition. Do not force a voltage higher than INTVCC on this pin."

## LTC3823IUH#PBF
designator U?
Fast No Rsense Step-Down Synchronous Controller with Differential Output Sensing, Tracking and PLL, 32-pin QFN (UH-32), -40 to 85 degC, Pb-Free; Manufacturer: Linear Technology; PartNumber: LTC3823IUH#PBF; Number of Outputs: 1; PackageReference: UH-32; PackageDescription: 32-Pin Plastic QFN, Body 5 x 5 mm, Pitch 0.5 mm; Supplier 1: Digi-Key; Supplier Part Number 1: LTC3823IUH#PBF-ND; RoHS: TRUE; Code_JEDEC: MO-220
footprint LT-UH-32_N (QFN, 32-Leads, Body 5.1x5.1mm, Pitch 0.5mm, Thermal Pad 3.45X3.45mm, IPC Medium Density)
footprint LT-UH-32_L (QFN, 32-Leads, Body 5.1x5.1mm, Pitch 0.5mm, Thermal Pad 3.45X3.45mm, IPC High Density)
footprint LT-UH-32_M (QFN, 32-Leads, Body 5.1x5.1mm, Pitch 0.5mm, Thermal Pad 3.45X3.45mm, IPC Low Density)
pins: 1 VRNG (in) "Sense Voltage Range Input. The voltage at this pin is ten times the nominal sense voltage at maximum output current and can be set from 0.5V to 2V by a resistive divider from INTVCC. The nominal sense voltage defaults to (See Datasheet)", 2 VFB (in) "Error Ampli?er Feedback Input. This pin connects the error ampli?er input to an external resistive divider from VOUT.", 3 ITH "Current Control Threshold and Error Ampli?er Compensation Point. The current comparator threshold increases with this control voltage. The voltage ranges from 0V to 2.4V with 0.75V corresponding to zero sense voltage (zer(See Datasheet)", 4 SGND (power) "Signal Ground. All small-signal components and compensation components should connect to this ground, which in turn, connects to PGND at one point.", 5 ION (in) "On-Time Current Input. Tie a resistor from this pin to ground to set the one-shot timer current and thereby, set the switching frequency", 6 VDIFFOUT (out) "Output of Remote Sensing Differential Amplifier. Connect this to VFB directly or through a resistive divider", 7 NC "No Connect", 8 VOUTSENSE+ (in) "This is the positive sense pin for the remote sense differential amplifier. Connect this pin to the positive terminal of the output load capacitor", 9 VOUTSENSE- (in) "This is the negative sense pin for the remote sense differential amplifier. Connect this pin to the negative terminal of the output load capacitor.", 10 NC "No Connect", 11 TRACK/SS (in) "Output Voltage Tracking and Soft-Start Input. When the IC is configured to be the master of two outputs, a capacitor to ground at this pin sets the ramp rate for the output voltage. When the IC is configured to be (See Datasheet)", 12 PLLFLTR (in) "The phase-locked loop's lowpass filter is tied to this pin. The voltage at this pin defaults to 1.180V when the IC is not synchronized with an external clock at the PLLIN pin.", 13 PLLIN (in) "External Synchronization Input to Phase Detector. This pin is internally terminated to SGND with a 50k resistor.", 14 VIN (power) "Main Input Supply. Decouple this to PGND with a capacitor (0.1uF to 1uF).", 15 VINSNS (in) "VIN Voltage Sense Input. Normally this pin is tied to VIN. However, in certain applications when the IC is powered from a separate supply, VINSNS is tied to the upper MOSFET supply to sense the VIN voltage. This pin is (See Datasheet)", 16 ZVCC (power) "Post-Package Zener Trim Supply. Under normal conditions this pin should always be connected to INTVCC.", 17 Z1/SSENABLE (in) "Post-Package Zener Trim Control. This pin is a multifunctional pin used in production for post-package trimming and tracking. Ground this pin under normal soft-start operation. Connecting this pin to INTVCC will turn off the (See Datasheet)", 18 Z2 (in) "Post-Package Zener Trim Control. This pin is used in production for post-package trimming. Ground this pin under normal operation.", 19 INTVCC (power) "Internal 5V Regulated Output. The control circuits are powered from this voltage. Decouple this pin to PGND with a minimum of 4.7uF low ESR tantalum or ceramic capacitor.", 20 DRVCC (power) "Driver Voltage Input. Must be connected to INTVCC externally. Do not exceed 7V at this pin. This pin is co-bonded to INTVCC internally in the GN package.", 21 BG (out) "Gate Driver Output. This pin drives the gate of the bottom N-channel MOSFET between ground and INTVCC.", 22 PGND (power) "Power Ground. Connect this pin closely to the source of the bottom N-channel MOSFET, the (-) terminal of CVCC and CIN.", 23 SENSE- (in) "Current Sense Comparator Input. The negative input to the current comparator is used to accurately Kelvin sense the bottom side of the sense resistor or MOSFET.", 24 SENSE+ (in) "Current Sense Comparator Input. The positive input to the current comparator is normally connected to the SW node unless using a sense resistor.", 25 SW "Switch Node. The (-) terminal of the bootstrap capacitor, CB, connects here. This pin swings from a diode drop below ground up to VIN.", 26 TG (out) "Top Gate Drive Output. This pin drives the top N-channel MOSFET with a voltage swing equal to INTVCC, superimposed on the switch node voltage SW.", 27 BOOST "Boosted Floating Driver Supply. The (+) terminal of the bootstrap capacitor, CB, connects here. This pin swings from a diode voltage drop below INTVCC up to VIN + INTVCC.", 28 Z0 (in) "Dead Time Control Input. Applying a DC voltage at this pin will vary the dead time between TG low and BG high transition. Do not force a voltage higher than INTVCC on this pin.", 29 FCB (in) "Forced Continuous Input. Connect this pin to SGND to forced continuous synchronization operation at low load, to INTVCC to enable discontinuous mode operation at low load, or to a resistive divider from a secondary output (See Datasheet)", 30 RUN (in) "Run Control Input. A voltage above 1.5V turns on the IC. Forcing this pin below 1.5V shuts down the device.", 31 VON (in) "On-Time Input. Connecting this pin to the output voltage makes the on-time proportional to VOUT. The comparator input defaults to 0.6V when the pin is grounded and defaults to 4.8V when the pin is tied to INTVCC.", 32 PGOOD (oc) "Power Good Output. Open-drain logic that is pulled to ground when the output voltage is not within +/-11% of the regulation point after the internal 20us power bad mask timer expires.", 33 EP (power) "he exposed pad is signal ground. It must be soldered to PCB ground for electrical contact and for rated thermal performance."